# Altium footprint library R_0426.PcbLib: 1 footprints
Each footprint in its own frame and in the unit in brackets; x right, y up, seen from the top. Pads: shape width x height; smd on the part's side, far side on the other; paste and mask are expansions set on the pad; w line width, h text height; cw(c..) or ccw(c..) is an arc to the next point about the centre after c.
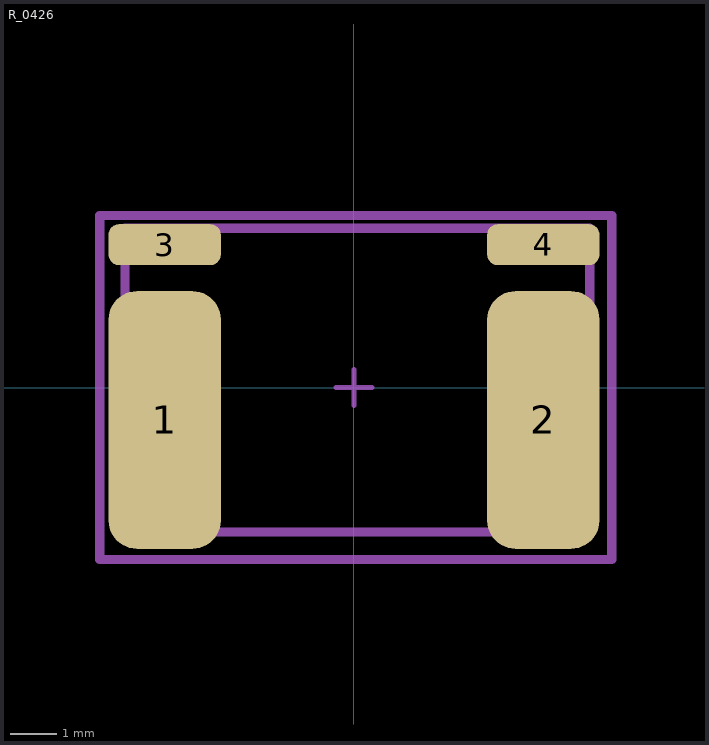
[diagram p0: the footprint, top view; thin cyan lines are the x and y axes]

## R_0426 [mm]
pads (4):
  rrect50% 2.44x5.6 smd mask+0.05: 1(-4.115,-0.705) 2(4.115,-0.705)
  rrect50% 2.44x0.89 smd mask+0.05: 3(-4.115,3.105) 4(4.115,3.105)
Top Assembly:
  lines w0.2: -4.975,-3.138 5.125,-3.138 5.125,2.412 5.125,3.462 -4.975,3.462 -4.975,-3.138
Top Courtyard:
  lines w0.1: -0.4,0 0.4,0 ; 0,-0.4 0,0.4
  lines w0.2: -5.525,-3.738 -5.525,3.737 5.6,3.737 5.6,-3.738 -5.525,-3.738
3D body "WSL4026 (0.001).stp": height 2.66, standoff -0.03, extent -4.975,-3.138 5.125,3.462